# Altium footprint library 400150.PcbLib: 52 footprints (part 1 of 4)
Each footprint in its own frame and in the unit in brackets; x right, y up, seen from the top. Pads: shape width x height; smd on the part's side, far side on the other; paste and mask are expansions set on the pad; w line width, h text height; cw(c..) or ccw(c..) is an arc to the next point about the centre after c.
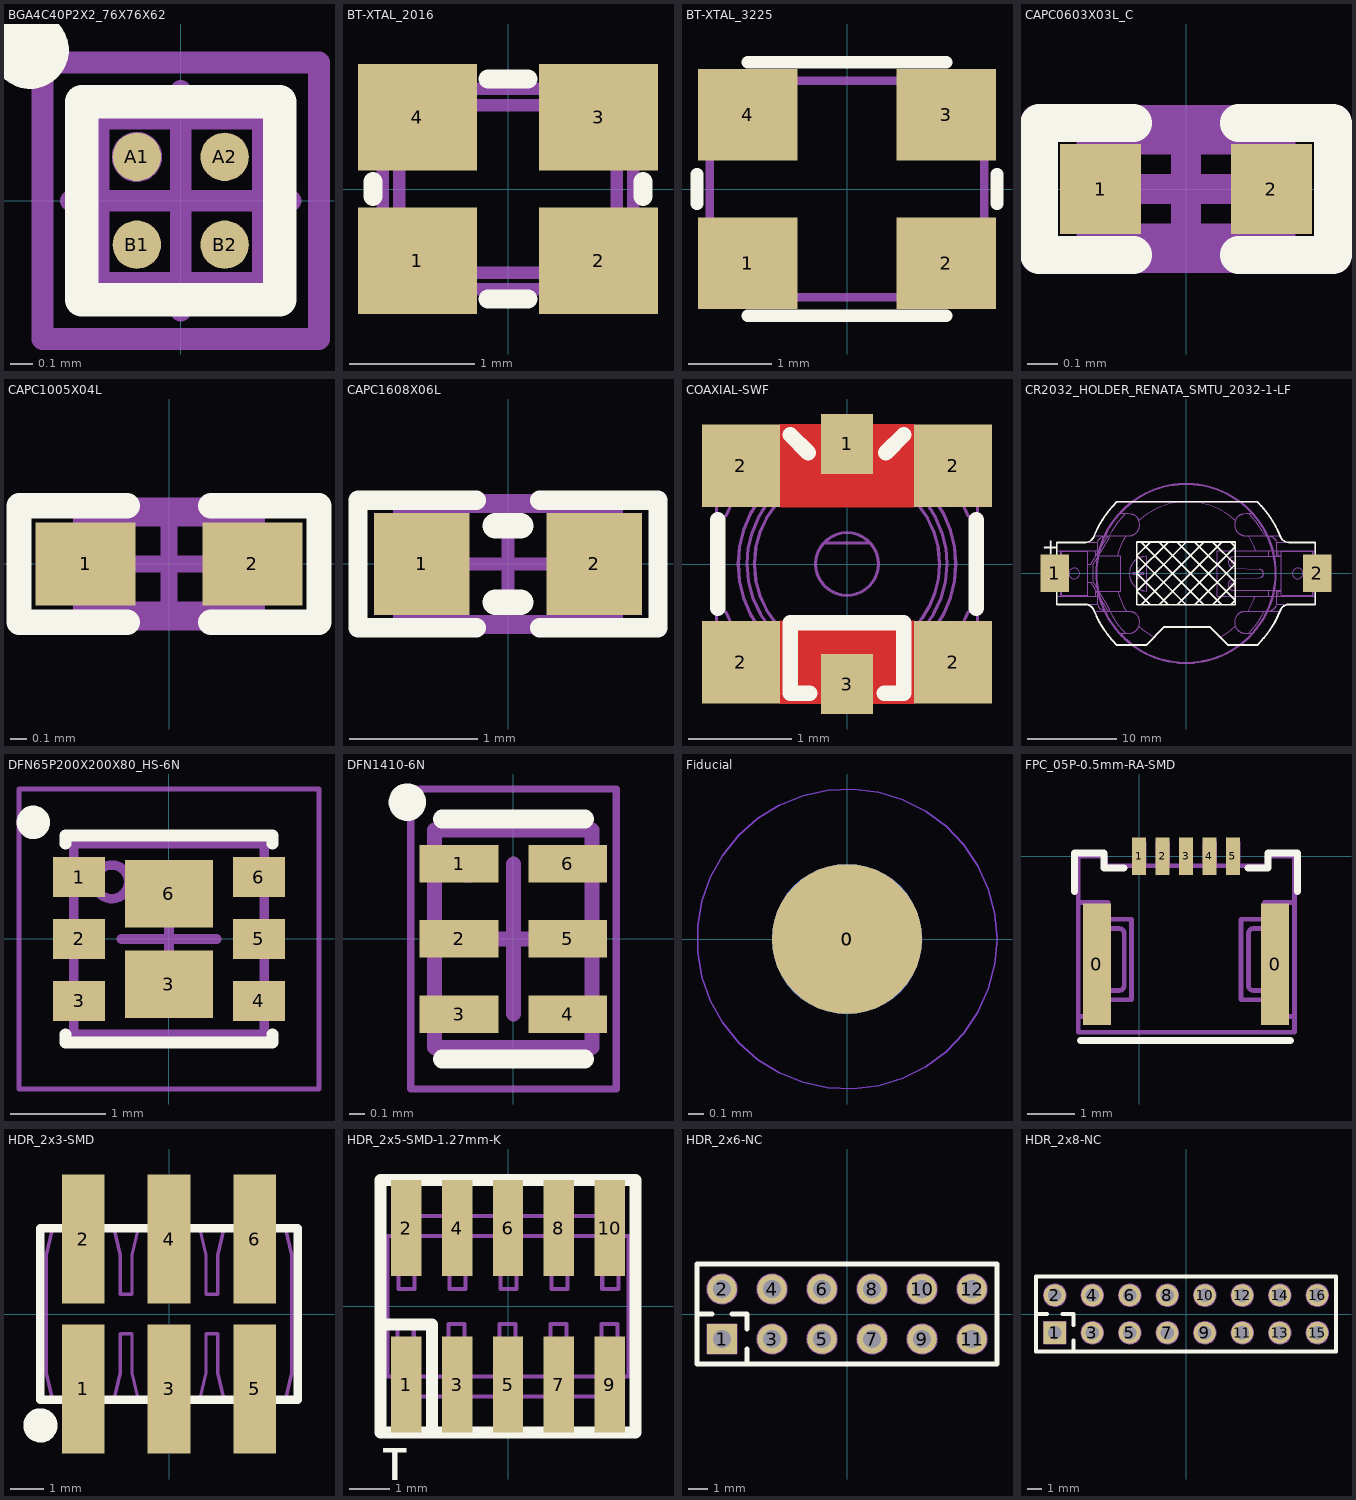
[diagram p0: the footprints below, top view; thin cyan lines are the x and y axes]

## BGA4C40P2X2_76X76X62 [mm]
pads (4):
  round 0.22 smd mask+0.05: A1(-0.2,0.2) A2(0.2,0.2) B1(-0.2,-0.2) B2(0.2,-0.2)
Top Overlay:
  circle w0.254: c-0.687,0.687 r0.05
  lines w0.152: -0.451,-0.451 -0.451,0.451 0.451,0.451 0.451,-0.451 -0.451,-0.451
Mechanical 7:
  circle w0.127: c-0.2,0.2 r0.051
  lines w0.1: -0.375,-0.375 0.375,-0.375 0.375,0.375 -0.375,0.375 -0.375,-0.375
  text ".Designator" at -0.374,0.505 h0.38
Mechanical 15:
  lines w0.1: -0.5,0 0.5,0 ; 0,-0.5 0,0.5 ; -0.63,-0.63 0.63,-0.63 0.63,0.63 -0.63,0.63 -0.63,-0.63
3D body: height 0.63, standoff 0.12, extent -0.375,-0.375 0.375,0.375

## BT-XTAL_2016 [mm]
pads (4):
  rect 0.95x0.85 smd: 1(-0.725,-0.575) 2(0.725,-0.575) 3(0.725,0.575) 4(-0.725,0.575)
Top Overlay:
  lines w0.152: -1.08,-0.06 -1.08,0.06 ; -0.16,-0.88 0.16,-0.88 ; -0.16,0.88 0.16,0.88 ; 1.08,-0.06 1.08,0.06
Mechanical 7:
  lines w0.1: -1,-0.7 cw(c-1,-0.8) -0.9,-0.8 0.9,-0.8 cw(c1,-0.8) 1,-0.7 1,0.7 cw(c1,0.8) 0.9,0.8 -0.9,0.8 cw(c-1,0.8) -1,0.7 -1,-0.7 ; -0.87,-0.57 ccw(c-0.77,-0.57) -0.77,-0.67 0.77,-0.67 ccw(c0.77,-0.57) 0.87,-0.57 0.87,0.57 ccw(c0.77,0.57) 0.77,0.67 -0.77,0.67 ccw(c-0.77,0.57) -0.87,0.57 -0.87,-0.57
  text ".Designator" at 0.29,0.199 h0.38
3D body: height 0.56, standoff 0.15, extent -0.7,-0.65 0.7,0.65
3D body "User Library-GeyerElectronics_KX5.step": height 0.56, standoff 0, extent -1.05,-0.85 1.05,0.85

## BT-XTAL_3225 [mm]
pads (4):
  rect 1.2x1.1 smd: 1(-1.194,-0.89) 2(1.194,-0.89) 3(1.194,0.891) 4(-1.194,0.891)
Top Overlay:
  lines w0.152: -1.803,-0.178 -1.803,0.178 ; -1.194,-1.524 1.194,-1.524 ; -1.194,1.524 1.194,1.524 ; 1.803,-0.178 1.803,0.178
Mechanical 7:
  lines w0.1: -1.65,-1.3 1.65,-1.3 1.65,1.3 -1.65,1.3 -1.65,-1.3
  text ".Designator" at 0.278,0.179 h0.38
3D body "User Library-tsx-3225.STEP": height 0.6, standoff 0, extent -1.6,-1.25 1.6,1.25

## CAPC0603X03L_C [mm]
pads (2):
  rect 0.27x0.3 smd: 1(-0.285,0) 2(0.285,0)
Top Overlay:
  lines w0.125: -0.175,-0.22 -0.49,-0.22 -0.49,0.22 -0.175,0.22 ; 0.175,-0.22 0.49,-0.22 0.49,0.22 0.175,0.22
Mechanical 7:
  lines w0.1: -0.315,-0.165 0.315,-0.165 0.315,0.165 -0.315,0.165 -0.315,-0.165
  text ".Designator" at 0.337,0.575 h0.3
Mechanical 15:
  lines w0.1: -0.165,0 0.165,0 ; 0,-0.165 0,0.165 ; -0.5,-0.23 0.5,-0.23 0.5,0.23 -0.5,0.23 -0.5,-0.23
3D body "User Library-0201(0603M) Cap.step": height 0.3, standoff -0.01, extent -0.305,-0.152 0.305,0.153

## CAPC1005X04L [mm]
pads (2):
  rect 0.6x0.5 smd: 1(-0.5,0) 2(0.5,0)
Top Overlay:
  lines w0.152: -0.25,-0.35 -0.9,-0.35 -0.9,0.35 -0.25,0.35 ; 0.25,-0.35 0.9,-0.35 0.9,0.35 0.25,0.35
Mechanical 7:
  lines w0.1: -0.525,-0.275 -0.525,0.275 0.525,0.275 0.525,-0.275 -0.525,-0.275
  text ".Designator" at 0.362,0.149 h0.3
Mechanical 15:
  lines w0.1: -0.275,0 0.275,0 ; 0,-0.275 0,0.275 ; -0.9,-0.35 0.9,-0.35 0.9,0.35 -0.9,0.35 -0.9,-0.35
3D body "User Library-0402(1005M) Cap.step": height 0.5, standoff -0.01, extent -0.508,-0.254 0.508,0.254

## CAPC1608X06L [mm]
pads (2):
  rect 0.75x0.8 smd: 1(-0.675,0) 2(0.675,0)
Top Overlay:
  lines w0.152: -0.25,-0.5 -1.175,-0.5 -1.175,0.5 -0.25,0.5 ; 0.25,-0.5 1.175,-0.5 1.175,0.5 0.25,0.5
  lines w0.2: -0.1,-0.3 0.1,-0.3 ; -0.1,0.3 0.1,0.3
Mechanical 7:
  lines w0.1: -0.85,-0.45 0.85,-0.45 0.85,0.45 -0.85,0.45 -0.85,-0.45
  text ".Designator" at 0.541,0.198 h0.38
Mechanical 15:
  lines w0.1: -0.45,0 0.45,0 ; 0,-0.45 0,0.45 ; -1.175,-0.5 -1.175,0.5 1.175,0.5 1.175,-0.5 -1.175,-0.5
3D body "User Library-Chip Capacitor 0603.step": height 0.8, standoff 0, extent -0.8,-0.43 0.8,0.43

## COAXIAL-SWF [mm]
pads (6):
  rect 0.5x0.58 smd: 1(0,1.16) 3(0,-1.16)
  rect 0.75x0.8 smd: 2(-1.025,-0.95) 2(-1.025,0.95) 2(1.025,-0.95) 2(1.025,0.95)
Top Layer:
  pour cut-out: 0.65,-0.55 -0.65,-0.55 -0.65,-1.35 0.65,-1.35
  pour cut-out: -0.65,0.55 0.65,0.55 0.65,1.35 -0.65,1.35
Top Overlay:
  lines w0.15: -1.25,-0.43 -1.25,0.43 ; -0.55,1.25 -0.375,1.075 ; -0.36,-1.25 -0.55,-1.25 -0.55,-0.57 0.55,-0.57 0.55,-1.25 0.36,-1.25 ; 0.375,1.075 0.55,1.25 ; 1.25,-0.43 1.25,0.43
Mechanical 7:
  drawing of 206 lines, arcs and shapes, not listed
  text ".Designator" at 1.427,0.282 h0.38
3D body: height 1.55, standoff 1.25, extent -1.05,-1.05 1.05,1.05
3D body: height 1.25, standoff 0.95, extent -1.05,-1.049 1.05,1.05
3D body: height 0.9, standoff 0.6, extent -1.05,-1.049 1.05,1.05
3D body: height 0.55, standoff 0.1, extent -1.262,-1.252 1.262,1.253
3D body: height 0.6, standoff 0, extent -1.262,0.655 -0.757,1.248
3D body: height 0.6, standoff 0, extent -1.262,-1.25 -0.757,-0.649
3D body: height 0.6, standoff 0, extent 0.757,-1.246 1.262,-0.653
3D body: height 0.6, standoff 0, extent 0.757,0.655 1.262,1.249
3D body: height 0.95, standoff 0.75, extent -1,-0.999 1,1.001
3D body: height 0.75, standoff 0.6, extent -1.05,-1.049 1.05,1.05
3D body: height 1.4, standoff 0.6, extent -0.9,-0.9 0.9,0.901
3D body: height 0.6, standoff 0.55, extent -1.262,-1.248 1.262,1.251
3D body: height 0.15, standoff 0, extent -0.227,0.899 0.227,1.299
3D body: height 0.15, standoff 0, extent -0.227,-1.301 0.227,-0.758

## CR2032_HOLDER_RENATA_SMTU_2032-1-LF [mm]
pads (2):
  rect 3.2x4.2 smd: 1(-14.65,0) 2(14.65,0)
Top Overlay:
  drawing of 220 lines, arcs and shapes, not listed
  text "+" at -16.1,2.1 h1.78
Mechanical 7:
  drawing of 1332 lines, arcs and shapes, not listed
Mechanical 15:
  circle w0.25: c0,0 r10
3D body "SMTU2032-LF.step": height 5.4, standoff 0, extent -15.9,-8.05 15.9,8.05

## DFN65P200X200X80_HS-6N [mm]
pads (8):
  rect 0.55x0.42 smd mask+0.055: 1(-0.945,0.65) 2(-0.945,0) 3(-0.945,-0.65) 4(0.945,-0.65) 5(0.945,0) 6(0.945,0.65)
  rect 0.92x0.71 smd mask+0.055: 3(0,-0.475) 6(0,0.475)
Top Overlay:
  circle w0.25: c-1.425,1.225 r0.05
  lines w0.125: -1.085,-1 -1.085,-1.085 1.085,-1.085 1.085,-1 ; -1.085,1 -1.085,1.085 1.085,1.085 1.085,1
Mechanical 7:
  circle w0.1: c-0.6,0.6 r0.177
  lines w0.1: -1,-1 1,-1 1,1 -1,1 -1,-1
  text ".Designator" at 0.359,0.12 h0.38
Mechanical 15:
  lines w0.05: -1.575,-1.575 1.575,-1.575 1.575,1.575 -1.575,1.575 -1.575,-1.575
  lines w0.1: -0.5,0 0.5,0 ; 0,-0.5 0,0.5
3D body "DFN65P200X200X80_HS-6N.step": height 0.8, standoff 0, extent -1.025,-1.025 1.025,1.025

## DFN1410-6N [mm]
pads (6):
  rect 0.525x0.25 smd mask+0.05: 1(-0.363,0.5) 2(-0.363,0) 3(-0.363,-0.5) 4(0.363,-0.5) 5(0.363,0) 6(0.363,0.5)
Top Overlay:
  circle w0.15: c-0.707,0.912 r0.05
  lines w0.125: -0.475,-0.8 0.475,-0.8 ; -0.475,0.8 0.475,0.8
Mechanical 7:
  circle w0.15: c-0.3,0.5 r0.05
  lines w0.1: -0.525,-0.725 0.525,-0.725 0.525,0.725 -0.525,0.725 -0.525,-0.725
  text ".Designator" at 0.404,-0.539 h0.38
Mechanical 15:
  lines w0.05: -0.685,-1 0.685,-1 0.685,1 -0.685,1 -0.685,-1
  lines w0.1: -0.5,0 0.5,0 ; 0,-0.5 0,0.5
3D body "PSON50P100X40-6N.step": height 0.4, standoff 0, extent -0.526,-0.725 0.526,0.725

## Fiducial [mm]
pads (2):
  round 1 smd paste+0 mask+0.5: 0(0,0)
  round 1 smd far side paste+0 mask+0.5: 0(0,0)
Top Layer keep-out:
  circle w0.01: c0,0 r1
Bottom Layer keep-out:
  circle w0.01: c0,0 r1

## FPC_05P-0.5mm-RA-SMD [mm]
pads (7):
  rect 0.6x2.6 smd: 0(-0.9,-2.3) 0(2.9,-2.3)
  rect 0.3x0.8 smd mask+0.05: 1(0,0) 2(0.5,0) 3(1,0) 4(1.5,0) 5(2,0)
Top Overlay:
  lines w0.15: -1.375,-0.75 -1.375,0.075 -0.75,0.075 -0.75,-0.25 -0.325,-0.25 ; -1.25,-3.925 3.225,-3.925 ; 2.325,-0.25 2.75,-0.25 2.75,0.075 3.375,0.075 3.375,-0.75
Mechanical 7:
  lines w0.1: -1.3,-3.416 -0.661,-3.416 -0.661,-3.06 -0.162,-3.06 -0.162,-1.34 -0.661,-1.34 -0.661,-0.983 -1.3,-0.983 ; -1.033,-3.416 -1.033,-0.983 ; -1.027,-2.86 -0.422,-2.86 ccw(c-0.418,-2.762) -0.321,-2.761 -0.321,-1.642 ccw(c-0.418,-1.638) -0.422,-1.54 -1.027,-1.54 ; -0.098,-0.198 -0.098,0.305 0.106,0.305 0.106,-0.198 ; -0.098,-0.048 0.106,-0.048 ; -0.098,0.006 0.106,0.006 ; 0.401,-0.198 0.401,0.305 0.605,0.305 0.605,-0.198 ; 0.401,-0.048 0.605,-0.048 ; 0.401,0.006 0.605,0.006 ; 0.901,-0.198 0.901,0.305 1.104,0.305 1.104,-0.198 ; 0.901,-0.048 1.104,-0.048 ; 0.901,0.006 1.104,0.006 ; 1.406,-0.198 1.406,0.305 1.61,0.305 1.61,-0.198 ; 1.406,-0.048 1.61,-0.048 ; 1.406,0.006 1.61,0.006 ; 1.905,-0.198 1.905,0.305 2.109,0.305 2.109,-0.198 ; 1.905,-0.048 2.109,-0.048 ; 1.905,0.006 2.109,0.006 ; 3.039,-2.86 2.435,-2.86 cw(c2.431,-2.762) 2.333,-2.761 2.333,-1.642 cw(c2.431,-1.638) 2.435,-1.54 3.039,-1.54 ; 3.046,-3.416 3.046,-0.983 ; 3.313,-3.416 2.674,-3.416 2.674,-3.06 2.174,-3.06 2.174,-1.34 2.674,-1.34 2.674,-0.983 3.313,-0.983 ; -1.3,-3.75 3.313,-3.75 3.313,0.006 2.724,0.006 2.724,-0.198 -0.712,-0.198 -0.712,0.006 -1.3,0.006 -1.3,-3.75
  text ".Designator" at 0.55,-2.15 h0.38
3D body "512810594.stp": height 1.2, standoff 0, extent -1.3,-3.85 3.3,0.2

## HDR_2x3-SMD [mil]
pads (6):
  rect 50x150 smd: 1(-100,-87.5) 2(-100,87.5) 3(0,-87.5) 4(0,87.5) 5(100,-87.5) 6(100,87.5)
Top Overlay:
  circle w20: c-150,-130 r10
  lines w10: -150,-100 150,-100 150,100 -150,100 -150,-100
Mechanical 7:
  lines w3.94: -113.78,-98.43 -113.78,-119.75 ccw(c-100,-119.75) -86.22,-119.75 -86.22,-98.43 ; -113.78,98.43 -113.78,119.75 cw(c-100,119.75) -86.22,119.75 -86.22,98.43 ; -13.78,-98.43 -13.78,-119.75 ccw(c0,-119.75) 13.78,-119.75 13.78,-98.43 ; -13.78,98.43 -13.78,119.75 cw(c0,119.75) 13.78,119.75 13.78,98.43 ; 86.22,-98.43 86.22,-119.75 ccw(c100,-119.75) 113.78,-119.75 113.78,-98.43 ; 86.22,98.43 86.22,119.75 cw(c100,119.75) 113.78,119.75 113.78,98.43 ; -143.11,-68.71 -136.22,-98.43 -63.78,-98.43 -56.89,-68.71 -56.89,-22.88 -43.11,-22.88 -43.11,-68.71 -36.22,-98.43 36.22,-98.43 43.11,-68.71 43.11,-22.88 56.89,-22.88 56.89,-68.71 63.78,-98.43 136.22,-98.43 143.11,-68.71 143.11,68.71 136.22,98.43 63.78,98.43 56.89,68.71 56.89,22.88 43.11,22.88 43.11,68.71 36.22,98.43 -36.22,98.43 -43.11,68.71 -43.11,22.88 -56.89,22.88 -56.89,68.71 -63.78,98.43 -136.22,98.43 -143.11,68.71 -143.11,-68.71 ; -111.81,-61.81 -88.19,-61.81 -88.19,-38.19 -111.81,-38.19 -111.81,-61.81 ; -111.81,38.19 -88.19,38.19 -88.19,61.81 -111.81,61.81 -111.81,38.19 ; -11.81,-61.81 -11.81,-38.19 11.81,-38.19 11.81,-61.81 -11.81,-61.81 ; -11.81,38.19 -11.81,61.81 11.81,61.81 11.81,38.19 -11.81,38.19 ; 88.19,-61.81 88.19,-38.19 111.81,-38.19 111.81,-61.81 88.19,-61.81 ; 88.19,38.19 88.19,61.81 111.81,61.81 111.81,38.19 88.19,38.19
  text ".Designator" at -68.4,-20.71 h27
3D body "pin_header_a-sl254-dg-g06mp1.stp": height 382.03, standoff -1.57, extent -149.99,-147.63 150.01,147.64

## HDR_2x5-SMD-1.27mm-K [mm]
pads (10):
  rect 0.76x2.4 smd: 1(-2.54,-1.95) 2(-2.54,1.95) 3(-1.27,-1.95) 4(-1.27,1.95) 5(0,-1.95) 6(0,1.95) 7(1.27,-1.95) 8(1.27,1.95) 9(2.54,-1.95) 10(2.54,1.95)
Top Overlay:
  lines w0.3: -3.175,-0.45 -1.9,-0.45 -1.9,-3.15 ; -3.175,-3.15 -3.175,3.15 3.175,3.15 3.175,-3.15 -3.175,-3.15
  text "1" at -2.349,-3.533 h1.02
Mechanical 7:
  lines w0.1: -2.74,-1.75 -2.74,-2.459 ccw(c-2.54,-2.459) -2.34,-2.459 -2.34,-2.25 ; -2.74,1.75 -2.74,2.459 cw(c-2.54,2.459) -2.34,2.459 -2.34,2.25 ; -2.5,-1.75 -2.5,-2.25 -1.25,-2.25 ; -2.5,1.75 -2.5,2.25 2.5,2.25 2.5,1.75 ; -1.47,-2.25 -1.47,-2.459 ccw(c-1.27,-2.459) -1.07,-2.459 -1.07,-2.25 ; -1.47,2.25 -1.47,2.459 cw(c-1.27,2.459) -1.07,2.459 -1.07,2.25 ; -1.25,-1.75 -1.25,-2.25 ; -0.2,-2.25 -0.2,-2.459 ccw(c0,-2.459) 0.2,-2.459 0.2,-2.25 ; -0.2,2.25 -0.2,2.459 cw(c0,2.459) 0.2,2.459 0.2,2.25 ; 1.07,-2.25 1.07,-2.459 ccw(c1.27,-2.459) 1.47,-2.459 1.47,-2.25 ; 1.07,2.25 1.07,2.459 cw(c1.27,2.459) 1.47,2.459 1.47,2.25 ; 1.25,-1.75 1.25,-2.25 ; 2.34,-2.25 2.34,-2.459 ccw(c2.54,-2.459) 2.74,-2.459 2.74,-1.75 ; 2.34,2.25 2.34,2.459 cw(c2.54,2.459) 2.74,2.459 2.74,1.75 ; 2.5,-1.75 2.5,-2.25 1.25,-2.25 ; -1.25,-2.25 1.25,-2.25 ; -3,-1.75 -3,1.75 3,1.75 3,-1.75 -3,-1.75 ; -2.75,-0.835 -2.75,-0.435 -2.35,-0.435 -2.35,-0.835 -2.75,-0.835 ; -2.73,0.435 -2.73,0.835 -2.33,0.835 -2.33,0.435 -2.73,0.435 ; -1.48,-0.835 -1.48,-0.435 -1.08,-0.435 -1.08,-0.835 -1.48,-0.835 ; -1.46,0.435 -1.46,0.835 -1.06,0.835 -1.06,0.435 -1.46,0.435 ; -0.21,-0.835 -0.21,-0.435 0.19,-0.435 0.19,-0.835 -0.21,-0.835 ; -0.19,0.435 -0.19,0.835 0.21,0.835 0.21,0.435 -0.19,0.435 ; 1.06,-0.835 1.06,-0.435 1.46,-0.435 1.46,-0.835 1.06,-0.835 ; 1.08,0.435 1.08,0.835 1.48,0.835 1.48,0.435 1.08,0.435 ; 2.33,-0.835 2.33,-0.435 2.73,-0.435 2.73,-0.835 2.33,-0.835 ; 2.35,0.435 2.35,0.835 2.75,0.835 2.75,0.435 2.35,0.435
  text ".Designator" at -0.8,-0.2 h0.38
3D body "Samtec-FTSH-105-01-F-DV-K.step": height 6.11, standoff -0.01, extent -3.137,-2.921 3.137,2.921

## HDR_2x6-NC [mm]
pads (12):
  rect 1.5x1.5 hole 0.9: 1(-6.35,-1.27)
  round 1.5 hole 0.9: 2(-6.35,1.27) 3(-3.81,-1.27) 4(-3.81,1.27) 5(-1.27,-1.27) 6(-1.27,1.27) 7(1.27,-1.27) 8(1.27,1.27) 9(3.81,-1.27) 10(3.81,1.27) 11(6.35,-1.27) 12(6.35,1.27)
Top Overlay:
  lines w0.254: -7.62,0 -6.858,0 ; -5.842,0 -5.08,0 -5.08,-0.762 ; -5.08,-2.54 -5.08,-1.778 ; -7.62,-2.54 7.62,-2.54 7.62,2.54 -7.62,2.54 -7.62,-2.54
Mechanical 7:
  circle w0.1: c6.35,-1.27 r0.45
  circle w0.1: c6.35,-1.27 r0.75
  circle w0.1: c6.35,1.27 r0.75
  circle w0.1: c6.35,1.27 r0.45
  circle w0.1: c3.81,-1.27 r0.45
  circle w0.1: c3.81,-1.27 r0.75
  circle w0.1: c3.81,1.27 r0.75
  circle w0.1: c3.81,1.27 r0.45
  circle w0.1: c1.27,-1.27 r0.45
  circle w0.1: c1.27,-1.27 r0.75
  circle w0.1: c1.27,1.27 r0.75
  circle w0.1: c1.27,1.27 r0.45
  circle w0.1: c-1.27,-1.27 r0.45
  circle w0.1: c-1.27,-1.27 r0.75
  circle w0.1: c-1.27,1.27 r0.75
  circle w0.1: c-1.27,1.27 r0.45
  circle w0.1: c-3.81,1.27 r0.45
  circle w0.1: c-3.81,1.27 r0.75
  circle w0.1: c-6.35,1.27 r0.45
  circle w0.1: c-6.35,1.27 r0.75
  circle w0.1: c-3.81,-1.27 r0.75
  circle w0.1: c-3.81,-1.27 r0.45
  circle w0.1: c-6.35,-1.27 r0.45
  lines w0.1: -7.62,0 -6.858,0 ; -5.842,0 -5.08,0 -5.08,-0.762 ; -5.08,-2.54 -5.08,-1.778 ; -7.62,-2.54 -7.62,2.54 7.62,2.54 7.62,-2.54 -7.62,-2.54 ; -7.1,-2.02 -5.6,-2.02 -5.6,-0.52 -7.1,-0.52 -7.1,-2.02
  text ".Designator" at -0.525,-0.1 h0.31
Mechanical 8:
  circle w0.1: c-6.35,-1.27 r0.45
  circle w0.1: c-3.81,-1.27 r0.45
  circle w0.1: c-3.81,-1.27 r0.75
  circle w0.1: c-6.35,1.27 r0.75
  circle w0.1: c-6.35,1.27 r0.45
  circle w0.1: c-3.81,1.27 r0.75
  circle w0.1: c-3.81,1.27 r0.45
  circle w0.1: c-1.27,1.27 r0.45
  circle w0.1: c-1.27,1.27 r0.75
  circle w0.1: c-1.27,-1.27 r0.75
  circle w0.1: c-1.27,-1.27 r0.45
  circle w0.1: c1.27,1.27 r0.45
  circle w0.1: c1.27,1.27 r0.75
  circle w0.1: c1.27,-1.27 r0.75
  circle w0.1: c1.27,-1.27 r0.45
  circle w0.1: c3.81,1.27 r0.45
  circle w0.1: c3.81,1.27 r0.75
  circle w0.1: c3.81,-1.27 r0.75
  circle w0.1: c3.81,-1.27 r0.45
  circle w0.1: c6.35,1.27 r0.45
  circle w0.1: c6.35,1.27 r0.75
  circle w0.1: c6.35,-1.27 r0.75
  circle w0.1: c6.35,-1.27 r0.45
  lines w0.1: -7.1,-2.02 -7.1,-0.52 -5.6,-0.52 -5.6,-2.02 -7.1,-2.02

## HDR_2x8-NC [mm]
pads (16):
  rect 1.5x1.5 hole 0.9: 1(-8.89,-1.27)
  round 1.5 hole 0.9: 2(-8.89,1.27) 3(-6.35,-1.27) 4(-6.35,1.27) 5(-3.81,-1.27) 6(-3.81,1.27) 7(-1.27,-1.27) 8(-1.27,1.27) 9(1.27,-1.27) 10(1.27,1.27) 11(3.81,-1.27) 12(3.81,1.27) 13(6.35,-1.27) 14(6.35,1.27) 15(8.89,-1.27) 16(8.89,1.27)
Top Overlay:
  lines w0.254: -10.16,0 -9.398,0 ; -8.382,0 -7.62,0 -7.62,-0.762 ; -7.62,-2.54 -7.62,-1.778 ; -10.16,-2.54 -10.16,2.54 10.16,2.54 10.16,-2.54 -10.16,-2.54
Mechanical 7:
  circle w0.1: c-8.89,-1.27 r0.45
  circle w0.1: c-6.35,-1.27 r0.45
  circle w0.1: c-6.35,-1.27 r0.75
  circle w0.1: c-8.89,1.27 r0.75
  circle w0.1: c-8.89,1.27 r0.45
  circle w0.1: c-6.35,1.27 r0.75
  circle w0.1: c-6.35,1.27 r0.45
  circle w0.1: c-3.81,1.27 r0.45
  circle w0.1: c-3.81,1.27 r0.75
  circle w0.1: c-3.81,-1.27 r0.75
  circle w0.1: c-3.81,-1.27 r0.45
  circle w0.1: c-1.27,1.27 r0.45
  circle w0.1: c-1.27,1.27 r0.75
  circle w0.1: c-1.27,-1.27 r0.75
  circle w0.1: c-1.27,-1.27 r0.45
  circle w0.1: c1.27,1.27 r0.45
  circle w0.1: c1.27,1.27 r0.75
  circle w0.1: c1.27,-1.27 r0.75
  circle w0.1: c1.27,-1.27 r0.45
  circle w0.1: c3.81,1.27 r0.45
  circle w0.1: c3.81,1.27 r0.75
  circle w0.1: c3.81,-1.27 r0.75
  circle w0.1: c3.81,-1.27 r0.45
  circle w0.1: c6.35,1.27 r0.45
  circle w0.1: c6.35,1.27 r0.75
  circle w0.1: c6.35,-1.27 r0.75
  circle w0.1: c6.35,-1.27 r0.45
  circle w0.1: c8.89,1.27 r0.45
  circle w0.1: c8.89,1.27 r0.75
  circle w0.1: c8.89,-1.27 r0.75
  circle w0.1: c8.89,-1.27 r0.45
  lines w0.1: -10.16,0 -9.398,0 ; -8.382,0 -7.62,0 -7.62,-0.762 ; -7.62,-2.54 -7.62,-1.778 ; -10.16,-2.54 10.16,-2.54 10.16,2.54 -10.16,2.54 -10.16,-2.54 ; -9.64,-2.02 -9.64,-0.52 -8.14,-0.52 -8.14,-2.02 -9.64,-2.02
  text ".Designator" at -0.525,-0.1 h0.31
Mechanical 8:
  circle w0.1: c8.89,-1.27 r0.45
  circle w0.1: c8.89,-1.27 r0.75
  circle w0.1: c8.89,1.27 r0.75
  circle w0.1: c8.89,1.27 r0.45
  circle w0.1: c6.35,-1.27 r0.45
  circle w0.1: c6.35,-1.27 r0.75
  circle w0.1: c6.35,1.27 r0.75
  circle w0.1: c6.35,1.27 r0.45
  circle w0.1: c3.81,-1.27 r0.45
  circle w0.1: c3.81,-1.27 r0.75
  circle w0.1: c3.81,1.27 r0.75
  circle w0.1: c3.81,1.27 r0.45
  circle w0.1: c1.27,-1.27 r0.45
  circle w0.1: c1.27,-1.27 r0.75
  circle w0.1: c1.27,1.27 r0.75
  circle w0.1: c1.27,1.27 r0.45
  circle w0.1: c-1.27,-1.27 r0.45
  circle w0.1: c-1.27,-1.27 r0.75
  circle w0.1: c-1.27,1.27 r0.75
  circle w0.1: c-1.27,1.27 r0.45
  circle w0.1: c-3.81,-1.27 r0.45
  circle w0.1: c-3.81,-1.27 r0.75
  circle w0.1: c-3.81,1.27 r0.75
  circle w0.1: c-3.81,1.27 r0.45
  circle w0.1: c-6.35,1.27 r0.45
  circle w0.1: c-6.35,1.27 r0.75
  circle w0.1: c-8.89,1.27 r0.45
  circle w0.1: c-8.89,1.27 r0.75
  circle w0.1: c-6.35,-1.27 r0.75
  circle w0.1: c-6.35,-1.27 r0.45
  circle w0.1: c-8.89,-1.27 r0.45
  lines w0.1: -9.64,-2.02 -8.14,-2.02 -8.14,-0.52 -9.64,-0.52 -9.64,-2.02